# Altium integrated library Altium_WS-SLSU (rev19b).IntLib: 2 symbols
Pins are listed as number, name and electrical type; pins without a type are passive.

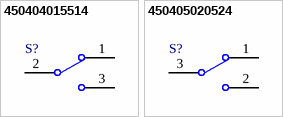
[diagram p0: symbols 450404015514 to 450405020524]

## 450404015514
designator S?
WS-SLSU Mini SMT Slide Switch, Same Side Connection, Right Angled, SPDT; Part Number: 450404015514; Rated Current: 300mA; Rated Voltage: 5VDC; Switching Function: On-On; ComponentLink1Description: Manufacturer; ComponentLink1URL: http://www.we-online.de; ComponentLink2Description: Datasheet; ComponentLink2URL: https://katalog.we-online.com/em/datasheet/450404015514.pdf; Packaging: Tape and Reel; Publisher: Wurth Elektronik; Contact Material: Copper Alloy; Mounting Technology: SMT; Operating Temperature: -40 to +85degC; Contact Plating: Silver; Published Date: September 2019; Terminal Material: Copper Alloy; Size: 6.7x2.7mm; Circuit: SPDT; Terminal Plating: Silver
footprint 450404015514
pins: 1, 2 COM, 3

## 450405020524
designator S?
WS-SLSU Mini SMT Slide Switch, Same Side Connection, Right Angled, SPDT; Part Number: 450405020524; Rated Current: 300mA; Rated Voltage: 5VDC; Switching Function: On-On; ComponentLink1Description: Manufacturer; ComponentLink1URL: http://www.we-online.de; ComponentLink2Description: Datasheet; ComponentLink2URL: https://katalog.we-online.com/em/datasheet/450405020524.pdf; Packaging: Tape and Reel; Publisher: Wurth Elektronik; Contact Material: Copper Alloy; Mounting Technology: SMT; Operating Temperature: -40 to +85degC; Contact Plating: Silver; Published Date: November 2019; Terminal Material: Copper Alloy; Size: 8.7x3mm; Circuit: SPDT; Terminal Plating: Silver
footprint 450405020524 (SMT Mini Slide Switch, Same side connection)
pins: 1, 2, 3 COM